# Altium footprint library Capacitors THD.PcbLib: 270 footprints (part 11 of 17)
Each footprint in its own frame and in the unit in brackets; x right, y up, seen from the top. Pads: shape width x height; smd on the part's side, far side on the other; paste and mask are expansions set on the pad; w line width, h text height; cw(c..) or ccw(c..) is an arc to the next point about the centre after c.
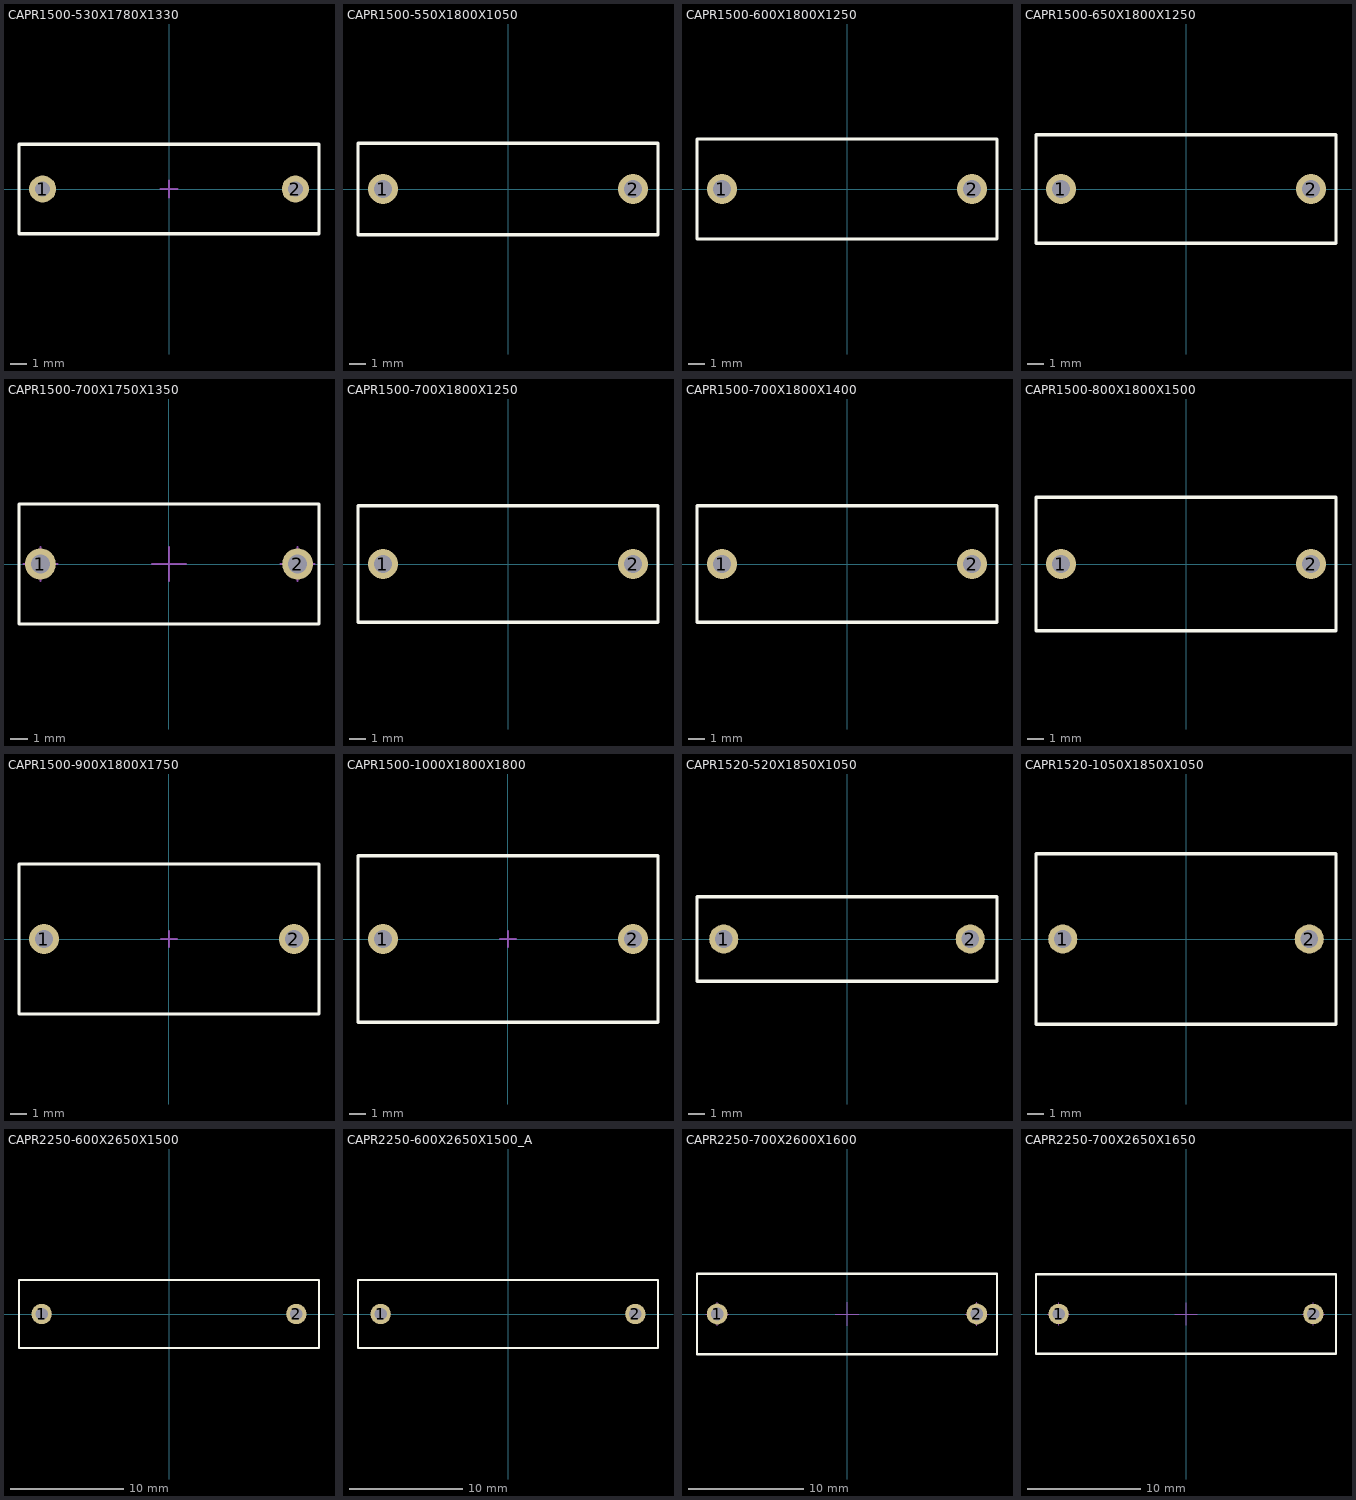
[diagram p10: the footprints below, top view; thin cyan lines are the x and y axes]

## CAPR1500-530X1780X1330 [mm] "Capacitor Radial, Pin spacing 15.0mm - Body With 5mm X Body Length 17.5mm X Body Height 13mm"
height 13.3
pads (2):
  round 1.6 hole 0.9: 1(-7.5,0) 2(7.5,0)
Top Overlay:
  lines w0.2: -8.9,-2.65 8.9,-2.65 8.9,2.65 -8.9,2.65 -8.9,-2.65
Mechanical 8:
  lines w0.1: -8,0 -7.5,0 ; -7.5,-0.5 -7.5,0 ; -7.5,0.5 -7.5,0 ; -7,0 -7.5,0 ; -0.5,0 0,0 ; 0,-0.5 0,0 ; 0,0.5 0,0 ; 0.5,0 0,0 ; 7,0 7.5,0 ; 7.5,-0.5 7.5,0 ; 7.5,0.5 7.5,0 ; 8,0 7.5,0
Mechanical 14:
  lines w0.1: -8.9,-2.65 8.9,-2.65 8.9,2.65 -8.9,2.65 -8.9,-2.65
3D body "CAPR1500-530X1780X1330.stp": height 13.3, standoff -3.2, extent -8.9,-2.65 8.9,2.65

## CAPR1500-550X1800X1050 [mm] "Capacitor Radial, Pin spacing 15.0mm - Body With 5.5mm X Body Length 18mm X Body Height 10.5mm"
height 10.5
pads (2):
  round 1.8 hole 1.1: 1(-7.5,0) 2(7.5,0)
Top Overlay:
  lines w0.2: -9,-2.75 9,-2.75 9,2.75 -9,2.75 -9,-2.75
Mechanical 13:
  lines w0.1: -9,-2.75 -9,2.75 9,2.75 9,-2.75 -9,-2.75
Mechanical 14:
  lines w0.1: -9,-2.75 9,-2.75 9,2.75 -9,2.75 -9,-2.75
3D body "CAPR1500-550X1800X1050.stp": height 10.5, standoff -3.5, extent -8.999,-2.75 9.001,2.75

## CAPR1500-600X1800X1250 [mm] "Capacitor Radial, Pin spacing 15.0mm - Body With 6mm X Body Length 18mm X Body Height 12.5mm"
height 12.5
pads (2):
  round 1.8 hole 1.1: 1(-7.5,0) 2(7.5,0)
Top Overlay:
  lines w0.2: -9,-3 -9,3 9,3 9,-3 -9,-3
Mechanical 13:
  lines w0.1: -9,-3 9,-3 9,3 -9,3 -9,-3
Mechanical 14:
  lines w0.1: -9,-3 -9,3 9,3 9,-3 -9,-3
3D body "CAPR1500-600X1800X1250.stp": height 12.5, standoff -3.8, extent -9,-3 9,3

## CAPR1500-650X1800X1250 [mm] "Capacitor Radial, Pin spacing 15.0mm - Body With 6.5mm X Body Length 18mm X Body Height 12.5mm"
height 12.5
pads (2):
  round 1.8 hole 1.1: 1(-7.5,0) 2(7.5,0)
Top Overlay:
  lines w0.2: -9,-3.25 -9,3.25 9,3.25 9,-3.25 -9,-3.25
Mechanical 13:
  lines w0.1: -9,-3.25 9,-3.25 9,3.25 -9,3.25 -9,-3.25
Mechanical 14:
  lines w0.1: -9,-3.25 -9,3.25 9,3.25 9,-3.25 -9,-3.25
3D body "CAPR1500-650X1800X1250.stp": height 12.8, standoff -3.5, extent -9,-3.25 9,3.25

## CAPR1500-700X1750X1350 [mm] "Capacitor Radial, Pin spacing 15.0mm - Body With 7mm X Body Length 17.5mm X Body Height 13.5mm"
height 13.5
pads (2):
  round 1.8 hole 1.1: 1(-7.5,0) 2(7.5,0)
Top Overlay:
  lines w0.2: -8.75,-3.5 8.75,-3.5 8.75,3.5 -8.75,3.5 -8.75,-3.5
Mechanical 8:
  lines w0.1: -8.5,0 -7.5,0 ; -7.5,-1 -7.5,0 ; -7.5,1 -7.5,0 ; -6.5,0 -7.5,0 ; -1,0 0,0 ; 0,-1 0,0 ; 0,1 0,0 ; 1,0 0,0 ; 6.5,0 7.5,0 ; 7.5,-1 7.5,0 ; 7.5,1 7.5,0 ; 8.5,0 7.5,0
Mechanical 14:
  lines w0.1: -8.75,-3.5 8.75,-3.5 8.75,3.5 -8.75,3.5 -8.75,-3.5
3D body "CAPR1500-700X1750X1350.stp": height 13.5, standoff -3.5, extent -8.75,-3.5 8.75,3.5

## CAPR1500-700X1800X1250 [mm] "Capacitor Radial, Pin spacing 15.0mm - Body With 7mm X Body Length 18mm X Body Height 12.5mm"
height 12.5
pads (2):
  round 1.8 hole 1.1: 1(-7.5,0) 2(7.5,0)
Top Overlay:
  lines w0.2: -9,-3.5 9,-3.5 9,3.5 -9,3.5 -9,-3.5
Mechanical 13:
  lines w0.1: -9,-3.5 -9,3.5 9,3.5 9,-3.5 -9,-3.5
Mechanical 14:
  lines w0.1: -9,-3.5 9,-3.5 9,3.5 -9,3.5 -9,-3.5
3D body "CAPR1500-700X1800X1250.stp": height 12.5, standoff -3.8, extent -8.999,-3.499 9.001,3.501

## CAPR1500-700X1800X1400 [mm] "Capacitor Radial, Pin spacing 15.0mm - Body With 7mm X Body Length 18mm X Body Height 14mm"
height 14
pads (2):
  round 1.8 hole 1.1: 1(-7.5,0) 2(7.5,0)
Top Overlay:
  lines w0.2: -9,-3.5 -9,3.5 9,3.5 9,-3.5 -9,-3.5
Mechanical 13:
  lines w0.1: -9,-3.5 9,-3.5 9,3.5 -9,3.5 -9,-3.5
Mechanical 14:
  lines w0.1: -9,-3.5 -9,3.5 9,3.5 9,-3.5 -9,-3.5
3D body "CAPR1500-700X1800X1400.stp": height 14, standoff -3.8, extent -8.999,-3.499 9.001,3.501

## CAPR1500-800X1800X1500 [mm] "Capacitor Radial, Pin spacing 15.0mm - Body With 8mm X Body Length 18mm X Body Height 15mm"
height 15
pads (2):
  round 1.8 hole 1.1: 1(-7.5,0) 2(7.5,0)
Top Overlay:
  lines w0.2: -9,-4 9,-4 9,4 -9,4 -9,-4
Mechanical 13:
  lines w0.1: -9,-4 -9,4 9,4 9,-4 -9,-4
Mechanical 14:
  lines w0.1: -9,-4 9,-4 9,4 -9,4 -9,-4
3D body "CAPR1500-800X1800X1500.stp": height 15, standoff -3.8, extent -8.999,-4 9.001,4

## CAPR1500-900X1800X1750 [mm] "Capacitor Radial, Pin spacing 15.0mm - Body Width 9mm X Body Length 18mm X Body Height 17.5mm"
height 17.5
pads (2):
  round 1.8 hole 1.1: 1(-7.5,0) 2(7.5,0)
Top Overlay:
  lines w0.2: -9,-4.5 -9,4.5 9,4.5 9,-4.5 -9,-4.5
Mechanical 8:
  lines w0.1: -8,0 -7.5,0 ; -7.5,-0.5 -7.5,0 ; -7.5,0.5 -7.5,0 ; -7,0 -7.5,0 ; -0.5,0 0,0 ; 0,-0.5 0,0 ; 0,0.5 0,0 ; 0.5,0 0,0 ; 7,0 7.5,0 ; 7.5,-0.5 7.5,0 ; 7.5,0.5 7.5,0 ; 8,0 7.5,0
Mechanical 14:
  lines w0.1: -9,-4.5 -9,4.5 9,4.5 9,-4.5 -9,-4.5
3D body "CAPR1500-900X1800X1750.stp": height 17.5, standoff -3.2, extent -9,-4.5 9,4.5

## CAPR1500-1000X1800X1800 [mm] "Capacitor Radial, Pin spacing 15.0mm - Body Width 10mm X Body Length 18mm X Body Height 18mm"
height 18
pads (2):
  round 1.8 hole 1.1: 1(-7.5,0) 2(7.5,0)
Top Overlay:
  lines w0.2: -9,-5 9,-5 9,5 -9,5 -9,-5
Mechanical 8:
  lines w0.1: -8,0 -7.5,0 ; -7.5,-0.5 -7.5,0 ; -7.5,0.5 -7.5,0 ; -7,0 -7.5,0 ; -0.5,0 0,0 ; 0,-0.5 0,0 ; 0,0.5 0,0 ; 0.5,0 0,0 ; 7,0 7.5,0 ; 7.5,-0.5 7.5,0 ; 7.5,0.5 7.5,0 ; 8,0 7.5,0
3D body "CAPR1500-1000X1800X1800.stp": height 17.5, standoff -3.5, extent -9,-5 9,5

## CAPR1520-520X1850X1050 [mm] "Capacitor Radial, Pin spacing 15.2mm - Body With 5.2mm X Body Length 18.5mm X Body Height 10.5mm"
height 10.5
pads (2):
  round 1.8 hole 1.1: 1(-7.6,0) 2(7.6,0)
Top Overlay:
  lines w0.2: -9.25,-2.6 9.25,-2.6 9.25,2.6 -9.25,2.6 -9.25,-2.6
Mechanical 13:
  lines w0.1: -9.25,-2.6 -9.25,2.6 9.25,2.6 9.25,-2.6 -9.25,-2.6
Mechanical 14:
  lines w0.1: -9.25,-2.6 9.25,-2.6 9.25,2.6 -9.25,2.6 -9.25,-2.6
3D body "CAPR1520-520X1850X1050.stp": height 10.5, standoff -3.8, extent -9.25,-2.6 9.25,2.6

## CAPR1520-1050X1850X1050 [mm] "Capacitor Radial, Pin spacing 15.2mm - Body With 10.5mm X Body Length 18.5mm X Body Height 10.5mm"
height 10.5
pads (2):
  round 1.8 hole 1.1: 1(-7.6,0) 2(7.6,0)
Top Overlay:
  lines w0.2: -9.25,-5.25 9.25,-5.25 9.25,5.25 -9.25,5.25 -9.25,-5.25
Mechanical 13:
  lines w0.1: -9.25,-5.25 -9.25,5.25 9.25,5.25 9.25,-5.25 -9.25,-5.25
Mechanical 14:
  lines w0.1: -9.25,-5.25 9.25,-5.25 9.25,5.25 -9.25,5.25 -9.25,-5.25
3D body "CAPR1520-1050X1850X1050.stp": height 10.5, standoff -3.8, extent -9.249,-5.249 9.251,5.251

## CAPR2250-600X2650X1500 [mm] "Capacitor Radial, Pin spacing 22.5.0mm - Body With 6mm X Body Length 26.5mm X Body Height 15mm"
height 15
pads (2):
  round 1.8 hole 1.1: 1(-11.25,0) 2(11.25,0)
Top Overlay:
  lines w0.2: -13.25,-3 -13.25,3 13.25,3 13.25,-3 -13.25,-3
Mechanical 13:
  lines w0.1: -13.25,-3 13.25,-3 13.25,3 -13.25,3 -13.25,-3
Mechanical 14:
  lines w0.1: -13.25,-3 -13.25,3 13.25,3 13.25,-3 -13.25,-3
3D body "CAPR2250-600X2650X1500.stp": height 15, standoff -3.8, extent -13.249,-2.999 13.251,3.001

## CAPR2250-600X2650X1500_A [mm] "Capacitor Radial, Pin spacing 22.5.0mm - Body With 6mm X Body Length 26.5mm X Body Height 15mm"
height 15
pads (2):
  round 1.8 hole 1.1: 1(-11.25,0) 2(11.25,0)
Top Overlay:
  lines w0.2: -13.25,-3 -13.25,3 13.25,3 13.25,-3 -13.25,-3
Mechanical 13:
  lines w0.1: -13.25,-3 13.25,-3 13.25,3 -13.25,3 -13.25,-3
Mechanical 14:
  lines w0.1: -13.25,-3 -13.25,3 13.25,3 13.25,-3 -13.25,-3
3D body "CAPR2250-600X2650X1500_A.stp": height 15, standoff -3.8, extent -13.25,-3 13.25,3

## CAPR2250-700X2600X1600 [mm] "Capacitor Radial, Pin spacing 22.5.0mm - Body With 7mm X Body Length 26.5mm X Body Height 16mm"
height 16
pads (2):
  round 1.8 hole 1.1: 1(-11.25,0) 2(11.25,0)
Top Overlay:
  lines w0.2: -13,-3.5 -13,3.5 13,3.5 13,-3.5 -13,-3.5
Mechanical 8:
  lines w0.1: -12.25,0 -11.25,0 ; -11.25,-1 -11.25,0 ; -11.25,1 -11.25,0 ; -10.25,0 -11.25,0 ; -1,0 0,0 ; 0,-1 0,0 ; 0,1 0,0 ; 1,0 0,0 ; 10.25,0 11.25,0 ; 11.25,-1 11.25,0 ; 11.25,1 11.25,0 ; 12.25,0 11.25,0
Mechanical 14:
  lines w0.1: -13,-3.5 -13,3.5 13,3.5 13,-3.5 -13,-3.5
3D body "CAPR2250-700X2600X1600.stp": height 16, standoff -3.8, extent -13,-3.5 13,3.5

## CAPR2250-700X2650X1650 [mm] "Capacitor Radial, Pin spacing 22.5.0mm - Body With 7mm X Body Length 26.5mm X Body Height 16.5mm"
height 16.5
pads (2):
  round 1.8 hole 1.1: 1(-11.25,0) 2(11.25,0)
Top Overlay:
  lines w0.2: -13.25,-3.5 -13.25,3.5 13.25,3.5 13.25,-3.5 -13.25,-3.5
Mechanical 8:
  lines w0.1: -12.25,0 -11.25,0 ; -11.25,-1 -11.25,0 ; -11.25,1 -11.25,0 ; -10.25,0 -11.25,0 ; -1,0 0,0 ; 0,-1 0,0 ; 0,1 0,0 ; 1,0 0,0 ; 10.25,0 11.25,0 ; 11.25,-1 11.25,0 ; 11.25,1 11.25,0 ; 12.25,0 11.25,0
Mechanical 14:
  lines w0.1: -13.25,-3.5 -13.25,3.5 13.25,3.5 13.25,-3.5 -13.25,-3.5
3D body "CAPR2250-700X2650X1650.stp": height 16.5, standoff -3.8, extent -13.25,-3.5 13.25,3.5